# Altium schematic symbol library MX25L25645GM2I-10G.SchLib: 1 symbol
Pins are listed as number, name and electrical type; pins without a type are passive.

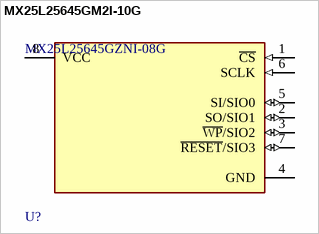
[diagram p0: symbol MX25L25645GM2I-10G]

## MX25L25645GM2I-10G
designator U?, comment MX25L25645GZNI-08G
IC FLSH 256MBIT SPI 120MHZ 8WSON; RoHS Compliant: Yes
footprint SOIC-8-4X5X18
pins: 1 ~{CS} (in), 2 SO/SIO1 (io), 3 ~{WP}/SIO2 (io), 4 GND (power), 5 SI/SIO0 (io), 6 SCLK (in), 7 ~{RESET}/SIO3 (io), 8 VCC (power)